# EAGLE library part MOLEX-90130-*08 (library connector)
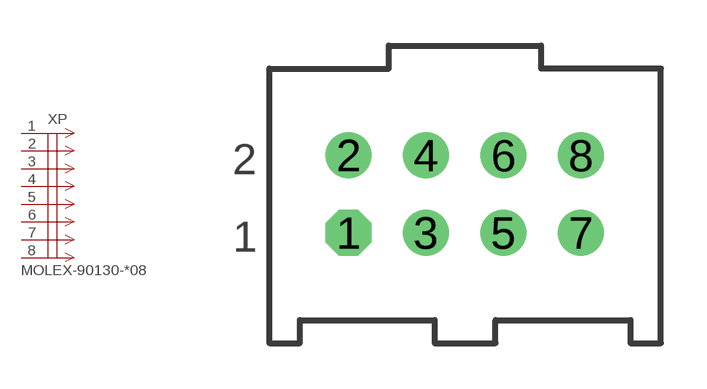
[diagram p6: symbol with the pads of MOLEX-90130-08; footprint MOLEX-90130-08]

Designator prefix XP

## MOLEX-90130-08  [MOLEX-90130-08]
1  1  pas
2  2  pas
3  3  pas
4  4  pas
5  5  pas
6  6  pas
7  7  pas
8  8  pas

## Footprint MOLEX-90130-08 (pad centres in mm)
drill 1 octagon: 1 0,0
drill 1: 2 0,2.54; 3 2.54,0; 4 2.54,2.54; 5 5.08,0; 6 5.08,2.54; 7 7.62,0; 8 7.62,2.54